# Altium footprint library bourns-packages.PcbLib: 14 footprints
Each footprint in its own frame and in the unit in brackets; x right, y up, seen from the top. Pads: shape width x height; smd on the part's side, far side on the other; paste and mask are expansions set on the pad; w line width, h text height; cw(c..) or ccw(c..) is an arc to the next point about the centre after c.
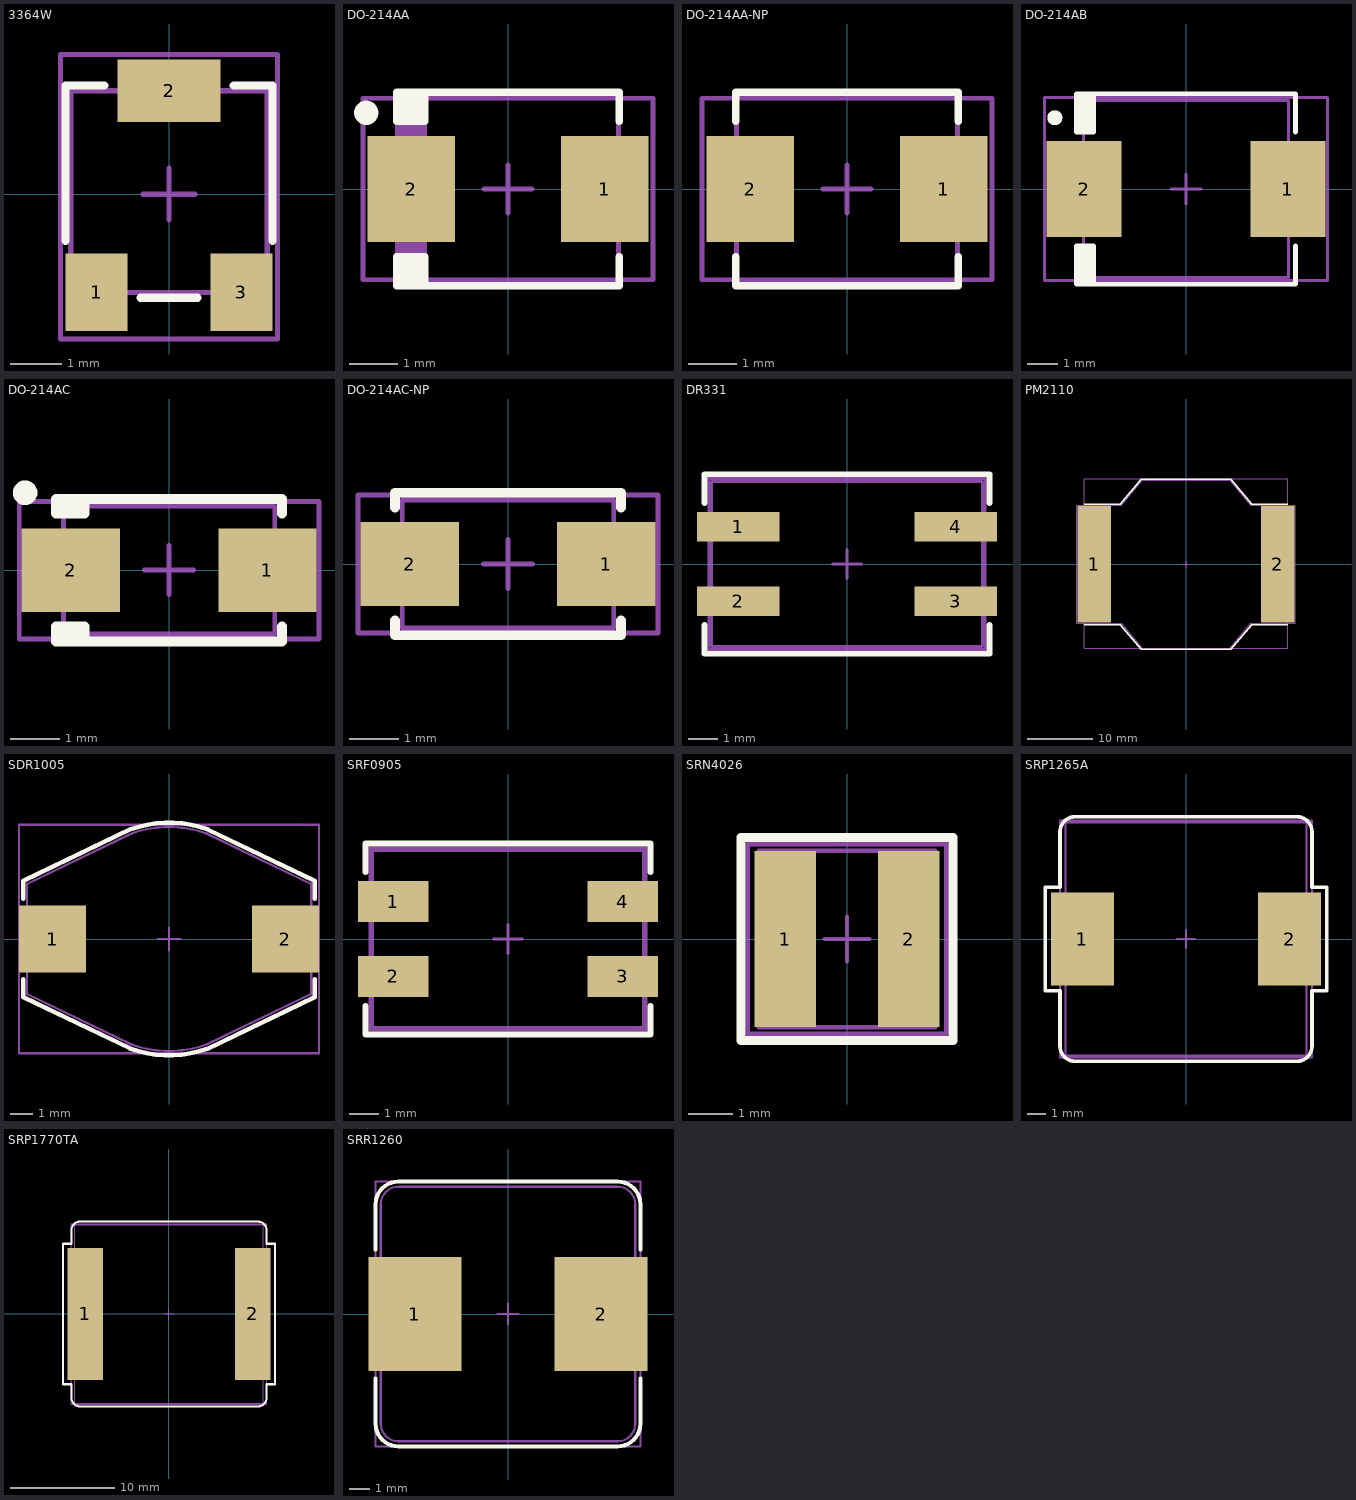
[diagram p0: the footprints below, top view; thin cyan lines are the x and y axes]

## 3364W [mm] "4mm Square Trimpot"
height 1.5
pads (3):
  rect 1.2x1.5 smd: 1(-1.4,-1.9) 3(1.4,-1.9)
  rect 2x1.2 smd: 2(0,2)
Top Overlay:
  lines w0.16: -2,-0.9 -2,2.1 -1.25,2.1 ; -0.55,-2 0.55,-2 ; 1.25,2.1 2,2.1 2,-0.9
Mechanical 13:
  lines w0.1: -0.5,0 0.5,0 ; 0,-0.5 0,0.5 ; -1.9,-1.9 -1.9,2 1.9,2 1.9,-1.9 -1.9,-1.9
Mechanical 15:
  lines w0.1: -2.1,-2.8 -2.1,2.7 2.1,2.7 2.1,-2.8 -2.1,-2.8
  text ".Designator" at -2.3,-0.1 h0.5
3D body "3364w-1-504e.stp": height 1.02, standoff -0.01, extent -1.9,-2.23 1.9,2.27

## DO-214AA [mm] "Molded Diode, 2-Leads, Body 4.3x3.6mm, IPC High Density"
height 2.4
pads (2):
  rect 1.8x2.2 smd: 1(2,0) 2(-2,0)
Top Overlay:
  circle w0.25: c-2.93,1.575 r0.125
  rectangle: -2.3,1.4 -1.735,2
  rectangle: -2.3,-2 -1.735,-1.4
  lines w0.16: -1.725,-2 -1.725,-1.4 -2.3,-1.4 -2.3,-2 2.3,-2 2.3,-1.405 ; -1.725,2 -1.725,1.4 -2.3,1.4 -2.3,2 2.3,2 2.3,1.405
Mechanical 13:
  rectangle: -2.285,-1.97 -1.67,1.97
  lines w0.1: -0.5,0 0.5,0 ; 0,-0.5 0,0.5 ; -2.285,-1.97 2.285,-1.97 2.285,1.97 -2.285,1.97 -2.285,-1.97
Mechanical 15:
  region: -2.375,-0.325 -2.7,0 -2.375,0.325
  lines w0.1: -3,-1.875 3,-1.875 3,1.875 -3,1.875 -3,-1.875
  text ".Designator" at -0.875,-0.175 h0.5
3D body "SW3dPS-DO-214AA SMB.step": height 2.3, standoff 0, extent -2.7,-1.8 2.7,1.8

## DO-214AA-NP [mm] "Molded Diode, 2-Leads, Body 4.3x3.6mm, IPC High Density"
height 2.4
pads (2):
  rect 1.8x2.2 smd: 1(2,0) 2(-2,0)
Top Overlay:
  lines w0.16: -2.3,-1.4 -2.3,-2 2.3,-2 2.3,-1.405 ; -2.3,1.4 -2.3,2 2.3,2 2.3,1.405
Mechanical 13:
  lines w0.1: -0.5,0 0.5,0 ; 0,-0.5 0,0.5 ; -2.285,-1.97 -2.285,1.97 2.285,1.97 2.285,-1.97 -2.285,-1.97
Mechanical 15:
  lines w0.1: -3,-1.875 -3,1.875 3,1.875 3,-1.875 -3,-1.875
  text ".Designator" at -0.875,-0.175 h0.5
3D body "SW3dPS-DO-214AA SMB.step": height 2.3, standoff 0, extent -2.7,-1.8 2.7,1.8

## DO-214AB [mm] "Molded Diode, 2-Leads, Body 6.9x6.1mm, IPC Medium Density"
height 2.5
pads (2):
  rect 2.5x3.2 smd: 1(3.4,0) 2(-3.4,0)
Top Overlay:
  circle w0.25: c-4.375,2.375 r0.125
  rectangle: -3.64,1.875 -3.075,3.175
  rectangle: -3.65,-3.175 -3.085,-1.875
  lines w0.16: -3.075,-3.175 -3.075,-1.9 -3.65,-1.9 -3.65,-3.175 3.65,-3.175 3.65,-1.9 ; -3.075,3.175 -3.075,1.9 -3.65,1.9 -3.65,3.175 3.65,3.175 3.65,1.9
Mechanical 13:
  lines w0.1: -3.425,-1.525 -3.975,-1.525 -3.975,1.525 -3.425,1.525 ; -0.5,0 0.5,0 ; 0,-0.5 0,0.5 ; 3.425,-1.525 3.975,-1.525 3.975,1.525 3.425,1.525 ; -3.425,-2.95 3.425,-2.95 3.425,2.95 -3.425,2.95 -3.425,-2.95
Mechanical 15:
  region: -4.125,-0.325 -4.45,0 -4.125,0.325
  lines w0.1: -4.725,-3.05 4.725,-3.05 4.725,3.05 -4.725,3.05 -4.725,-3.05
  text ".Designator" at -0.875,-0.175 h0.5
3D body "User Library-DO-214AB SMC.step": height 2.3, standoff 0, extent -3.975,-2.95 3.975,2.95

## DO-214AC [mm] "Molded Diode, 2-Leads, Body 4.3x2.6mm, IPC High Density"
height 2.15
pads (2):
  rect 2x1.7 smd: 1(2,0) 2(-2,0)
Top Overlay:
  circle w0.25: c-2.93,1.575 r0.125
  rectangle: -2.3,-1.45 -1.71,-1.125
  rectangle: -2.3,1.125 -1.725,1.45
  lines w0.2: -1.725,-1.45 -1.725,-1.15 -2.3,-1.15 -2.3,-1.45 2.3,-1.45 2.3,-1.15 ; -1.725,1.45 -1.725,1.15 -2.3,1.15 -2.3,1.45 2.3,1.45 2.3,1.15
Mechanical 13:
  lines w0.1: -0.5,0 0.5,0 ; 0,-0.5 0,0.5 ; -2.15,-1.3 -2.15,1.3 2.15,1.3 2.15,-1.3 -2.15,-1.3
Mechanical 15:
  region: -2.375,-0.325 -2.7,0 -2.375,0.325
  lines w0.1: -3.05,-1.4 -3.05,1.4 3.05,1.4 3.05,-1.4 -3.05,-1.4
  text ".Designator" at -0.875,-0.175 h0.5
3D body "DO-214AC.step": height 2.3, standoff -0.1, extent -2.6,-1.3 2.6,1.3

## DO-214AC-NP [mm] "Molded Diode, 2-Leads, Body 4.3x2.6mm, IPC High Density"
height 2.15
pads (2):
  rect 2x1.7 smd: 1(2,0) 2(-2,0)
Top Overlay:
  lines w0.2: -2.3,-1.15 -2.3,-1.45 2.3,-1.45 2.3,-1.15 ; -2.3,1.15 -2.3,1.45 2.3,1.45 2.3,1.15
Mechanical 13:
  lines w0.1: -0.5,0 0.5,0 ; 0,-0.5 0,0.5 ; -2.15,-1.3 -2.15,1.3 2.15,1.3 2.15,-1.3 -2.15,-1.3
Mechanical 15:
  lines w0.1: -3.05,-1.4 -3.05,1.4 3.05,1.4 3.05,-1.4 -3.05,-1.4
  text ".Designator" at -0.875,-0.175 h0.5
3D body "DIOM5226X203N.step": height 2.05, standoff 0.02, extent -2.6,-1.3 2.6,1.3

## DR331 [mm]
height 4.8
pads (4):
  rect 2.8x1 smd: 1(-3.7,1.27) 2(-3.7,-1.27) 3(3.7,-1.27) 4(3.7,1.27)
Top Overlay:
  lines w0.2: -4.85,-2.075 -4.85,-3.05 4.85,-3.05 4.85,-2.075 ; -4.85,2.075 -4.85,3.05 4.85,3.05 4.85,2.075
Mechanical 13:
  lines w0.1: -0.5,0 0.5,0 ; 0,-0.5 0,0.5 ; -4.6,-2.8 -4.6,2.8 4.6,2.8 4.6,-2.8 -4.6,-2.8
Mechanical 15:
  lines w0.1: -4.7,-3.1 -4.7,3.1 ; -4.7,-2.9 4.7,-2.9 ; -4.7,2.9 4.7,2.9 ; 4.7,-3.1 4.7,3.1
  text ".Designator" at -2.05,-0.15 h0.5
3D body "Coilcraft-CQ7584-AL.sldprt": height 4.81, standoff 0.01, extent -4.7,-2.8 4.7,2.8

## PM2110 [mm] "SMT Power Inductor"
height 3.4
pads (2):
  rect 5.1x17.8 smd: 1(-14,0) 2(14,0)
Top Overlay:
  lines w0.2: -15.5,-9.2 -10,-9.2 -6.8,-13 6.8,-13 10,-9.2 15.5,-9.2 ; -15.5,9.2 -10,9.2 -6.8,13 6.8,13 10,9.2 15.5,9.2
Mechanical 13:
  lines w0.1: -0.5,0 0.5,0 ; 0,-0.5 0,0.5 ; -16.7,-9 -16.7,9 -9.9,9 -6.7,12.8 6.7,12.8 9.9,9 16.7,9 16.7,-9 9.9,-9 6.7,-12.8 -6.7,-12.8 -9.9,-9 -16.7,-9
Mechanical 15:
  lines w0.1: -15.5,-12.8 -15.5,13.1 15.5,13.1 15.5,-12.8 -15.5,-12.8
  text ".Designator" at 0.175,-2.325 h0.5
3D body "pm2110-271k-rc.stp": height 15.27, standoff 0.03, extent -15.25,-12.7 15.25,12.7

## SDR1005 [mm] "SMT Power Inductor"
height 5
pads (2):
  rect 3x3 smd: 1(-5.2,0) 2(5.2,0)
Top Overlay:
  lines w0.2: -6.5,-1.8 -6.5,-2.6 -1.722,-4.9 ccw(c0,0) 1.704,-4.907 ; -6.5,1.8 -6.5,2.6 -1.704,4.909 ; -1.704,4.907 cw(c0,0) 1.722,4.9 6.5,2.6 6.5,1.8 ; 1.704,-4.909 6.5,-2.6 6.5,-1.8
Mechanical 13:
  lines w0.1: -1.709,-4.7 ccw(c0,0) 1.701,-4.703 ; -1.7,-4.7 -6.346,-2.463 -6.346,2.463 -1.7,4.7 ; -1.701,4.703 cw(c0,0) 1.709,4.7 ; -0.5,0 0.5,0 ; 0,-0.5 0,0.5 ; 1.7,-4.7 6.346,-2.463 ; 1.7,4.7 6.346,2.463 ; 6.354,-2.463 6.354,2.463
Mechanical 15:
  lines w0.1: -6.7,-5.1 6.7,-5.1 6.7,5.1 -6.7,5.1 -6.7,-5.1
  text ".Designator" at 0.175,-2.325 h0.5
3D body "User Library-SDR1005.STEP": height 5, standoff 0, extent -6.35,-5 6.35,5

## SRF0905 [mm]
height 3
pads (4):
  rect 2.4x1.4 smd: 1(-3.9,1.27) 2(-3.9,-1.27) 3(3.9,-1.27) 4(3.9,1.27)
Top Overlay:
  lines w0.2: -4.85,-2.275 -4.85,-3.25 4.85,-3.25 4.85,-2.275 ; -4.85,2.275 -4.85,3.25 4.85,3.25 4.85,2.275
Mechanical 13:
  lines w0.1: -0.5,0 0.5,0 ; 0,-0.5 0,0.5 ; -4.6,-3 -4.6,3 4.6,3 4.6,-3 -4.6,-3
Mechanical 15:
  lines w0.1: -4.7,-3.1 -4.7,3.1 4.7,3.1 4.7,-3.1 -4.7,-3.1
  text ".Designator" at -2.05,-0.15 h0.5
3D body "User Library-Bourns - SRF0905.step": height 5.02, standoff 0.02, extent -4.6,-3 4.6,3

## SRN4026 [mm] "Precision Wire Wound Inductor, 2-Leads, Body 4.0x4.0mm, IPC Medium Density"
height 1.8
pads (2):
  rect 1.4x4 smd: 1(-1.4,0) 2(1.4,0)
Top Overlay:
  lines w0.2: -2.4,-2.3 2.4,-2.3 2.4,2.3 -2.4,2.3 -2.4,-2.3
Mechanical 13:
  lines w0.1: -0.5,0 0.5,0 ; 0,-0.5 0,0.5 ; -2,-2 -2,2 2,2 2,-2 -2,-2
Mechanical 15:
  lines w0.1: -2.25,-2.15 -2.25,2.15 2.25,2.15 2.25,-2.15 -2.25,-2.15
  text ".Designator" at 0.1,-1.375 h0.5
3D body "SRN4026 Series.stp": height 2.15, standoff 0, extent -1.951,-1.955 1.951,1.956

## SRP1265A [mm] "Shielded Power Inductor, 12.5mmx13.5mm"
height 6.2
pads (2):
  rect 3.4x5 smd: 1(-5.6,0) 2(5.6,0)
Top Overlay:
  lines w0.2: -7.6,-2.8 -6.8,-2.8 -6.8,-5.8 ccw(c-6,-5.8) -6,-6.6 6,-6.6 ccw(c6,-5.8) 6.8,-5.8 6.8,-2.8 7.6,-2.8 7.6,2.8 6.8,2.8 6.8,5.8 ccw(c6,5.8) 6,6.6 -6,6.6 ccw(c-6,5.8) -6.8,5.8 -6.8,2.8 -7.6,2.8 -7.6,-2.8
Mechanical 13:
  lines w0.1: -0.5,0 0.5,0 ; 0,-0.5 0,0.5 ; -6.5,-6.3 -6.5,6.3 6.5,6.3 6.5,-6.3 -6.5,-6.3
Mechanical 15:
  lines w0.1: -6.8,-6.4 -6.8,6.4 6.8,6.4 6.8,-6.4 -6.8,-6.4
  text ".Designator" at 0.1,-1.375 h0.5
3D body "SRP1265A series.stp": height 6.32, standoff 0.01, extent -6.45,-6.25 6.45,6.25

## SRP1770TA [mm] "Shielded Power Inductor, 17mmx17mm"
height 6.7
pads (2):
  rect 3.4x12.6 smd: 1(-8,0) 2(8,0)
Top Overlay:
  lines w0.2: -10.1,-6.7 -10.1,6.7 -9.3,6.7 -9.3,8 cw(c-8.5,8) -8.5,8.8 8.5,8.8 cw(c8.5,8) 9.3,8 9.3,6.7 10.1,6.7 10.1,-6.7 9.3,-6.7 9.3,-8 cw(c8.5,-8) 8.5,-8.8 -8.5,-8.8 cw(c-8.5,-8) -9.3,-8 -9.3,-6.7 -10.1,-6.7
Mechanical 13:
  lines w0.1: -0.5,0 0.5,0 ; 0,-0.5 0,0.5 ; 9,8.45 9,-8.5 -9,-8.5 -9,8.5 9,8.5
Mechanical 15:
  lines w0.1: -9.3,-8.6 9.3,-8.6 9.3,8.6 -9.3,8.6 -9.3,-8.6
  text ".Designator" at 0.1,-1.375 h0.5
3D body "SRP1770TA.stp": height 6.83, standoff 0.02, extent -8.95,-8.45 8.95,8.45

## SRR1260 [mm] "Shielded Surface Mount Power Inductor"
height 6
pads (2):
  rect 4.5x5.5 smd: 1(-4.5,0) 2(4.5,0)
Top Overlay:
  lines w0.2: -6.4,-3.125 -6.4,-5.3 ; -6.4,3.125 -6.4,5.3 cw(c-5.3,5.3) -5.3,6.4 5.3,6.4 cw(c5.3,5.3) 6.4,5.3 6.4,3.125 ; 6.4,-3.125 6.4,-5.3 cw(c5.3,-5.3) 5.3,-6.4 -5.3,-6.4 ; -6.4,-5.3 ccw(c-5.3,-5.3) -5.3,-6.4 ; -6.4,-5.3 ccw(c-5.3,-5.3) -5.3,-6.4
Mechanical 13:
  lines w0.1: -0.5,0 0.5,0 ; 0,-0.5 0,0.5 ; 5.3,6.15 cw(c5.3,5.3) 6.15,5.3 6.15,-5.3 cw(c5.3,-5.3) 5.3,-6.15 -5.3,-6.15 cw(c-5.3,-5.3) -6.15,-5.3 -6.15,5.3 cw(c-5.3,5.3) -5.3,6.15 5.3,6.15
Mechanical 15:
  lines w0.1: -6.4,-6.4 -6.4,6.4 6.4,6.4 6.4,-6.4 -6.4,-6.4
  text ".Designator" at 0.175,-2.325 h0.5
3D body "srr1260.stp": height 6, standoff 0, extent -6.25,-6.25 6.25,6.25